# Altium footprint library T8_devkit_PCB.PcbLib: 17 footprints (part 2 of 2)
Each footprint in its own frame and in the unit in brackets; x right, y up, seen from the top. Pads: shape width x height; smd on the part's side, far side on the other; paste and mask are expansions set on the pad; w line width, h text height; cw(c..) or ccw(c..) is an arc to the next point about the centre after c.
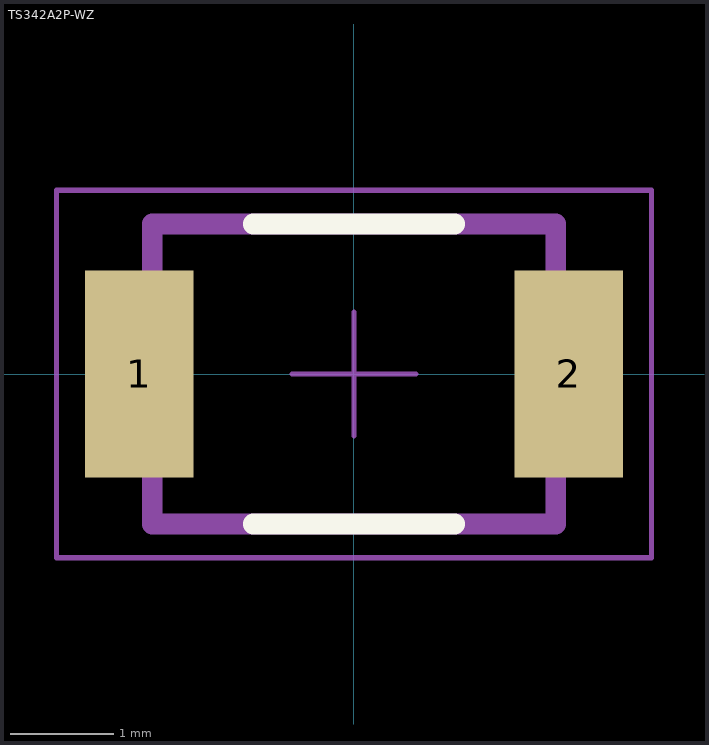
[diagram p1: the footprint, top view; thin cyan lines are the x and y axes]

## TS342A2P-WZ [mm] "3.95mm x 2.9mm x 2.1mm"
pads (2):
  rect 1.05x2 smd mask+0.05: 1(-2.075,0) 2(2.075,0)
Top Overlay:
  lines w0.2: -0.975,-1.45 0.975,-1.45 ; -0.975,1.45 0.975,1.45
Mechanical 13:
  lines w0.2: -1.95,-1.45 -1.95,1.45 1.95,1.45 1.95,-1.45 -1.95,-1.45
Mechanical 15:
  lines w0.05: -0.6,0 0,0 ; 0,-0.6 0,0 ; 0,0.6 0,0 ; 0.6,0 0,0 ; -2.875,-1.775 2.875,-1.775 2.875,-0.825 2.875,0.825 2.875,1.775 -2.875,1.775 -2.875,0.781 -2.875,-0.806 -2.875,-1.775
3D body "PTS820J20KSMTRLFS.step": height 2.05, standoff 0.05, extent -2.25,-1.45 2.25,1.45